# EAGLE library part POLOLUDRV8835 (library Me433lib)
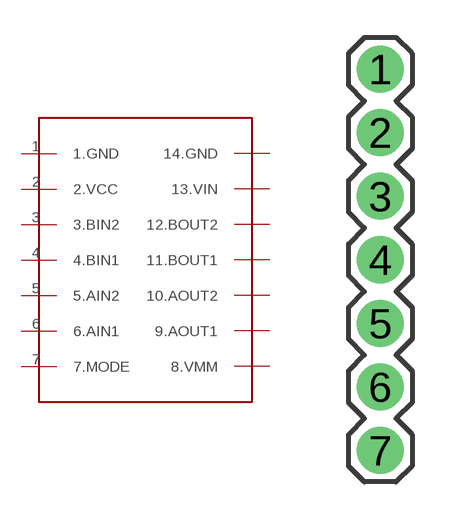
[diagram p9: symbol with the pads of 1X07; footprint 1X07]

Designator prefix -

## POLOLUDRV8835  [1X07]
1  1.GND
2  2.VCC
3  3.BIN2
4  4.BIN1
5  5.AIN2
6  6.AIN1
7  7.MODE

## Footprint 1X07 (pad centres in mm)
Plated Through Hole -7 Pin Specifications: Pin count:7 Pin pitch:0.1" Example device(s): CONN_07
drill 1.016 pad 1.88: 1 0,0; 2 0,-2.54; 3 0,-5.08; 4 0,-7.62; 5 0,-10.16; 6 0,-12.7; 7 0,-15.24